# Altium schematic symbol library MU_MP_39_V1.SCHLIB: 148 symbols (part 2 of 2)
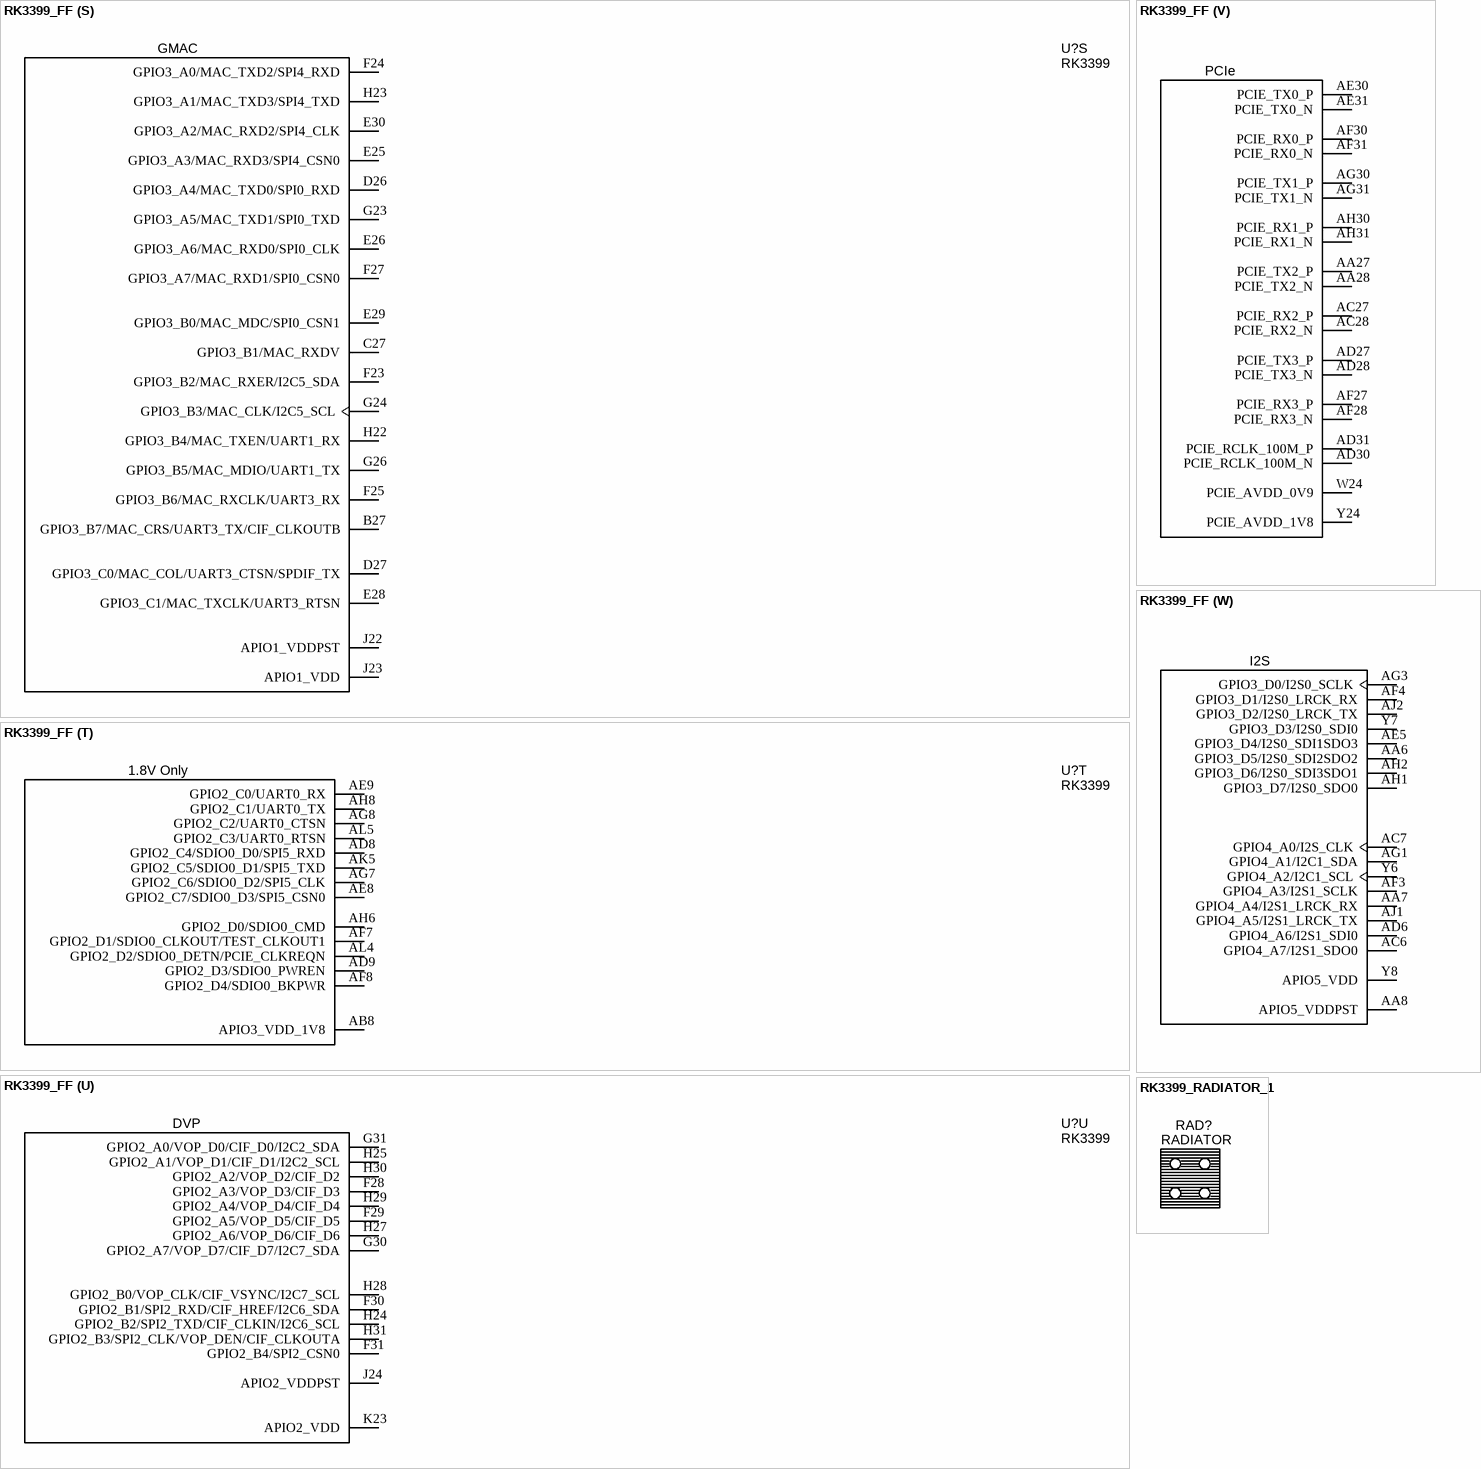
[diagram p14: symbols RK3399_FF to RK3399_RADIATOR_1]

## RK3399_FF
designator U?  value RK3399  (hidden comment: RK3399_FF)
Package: BGA828; ComponentType: *; Manufacter: *; PartNumber: RK3399; ClassName: *
footprint BGA828C65P31X31_2100X2100X161N
part A pins: A1 VSS_1, A27 VSS_2, A31 VSS_3, AA3 VSS_4, AA5 VSS_5, AA9 VSS_6, AA10 VSS_179 (power), AA11 AVSS_13, AA12 AVSS_17, AA13 VSS_177 (power), AA14 AVSS_26, AA15 AVSS_53, AA19 NC, AA20 NC, AA22 NC, AA23 AVSS_4, AA26 AVSS_6, AA29 AVSS_7, AB9 VSS_9, AB10 AVSS_12, AB11 AVSS_8, AB13 AVSS_9, AB15 AVSS_42, AB16 AVSS_41, AB17 AVSS_52, AB19 VSS_140 (power), AB20 NC, AB22 NC, AB23 AVSS_5, AC3 VSS_16, AC11 AVSS_44, AC12 NC, AC13 AVSS_45, AC14 NC, AC15 AVSS_10, AC16 AVSS_18, AC17 AVSS_43, AC18 VSS_145 (power), AC20 VSS_13, AC21 VSS_132 (power), AC22 VSS_12, AC23 AVSS_19, AC25 AVSS_51, AC26 AVSS_14, AC29 AVSS_15, AD3 VSS_17, AD5 VSS_18, AD10 VSS_19, AD11 NC, AD12 NC, AD13 AVSS_11, AD14 NC, AD15 NC, AD17 AVSS_16, AD21 VSS_163 (power), AD22 VSS_11, AD26 AVSS_40, AD29 AVSS_20, AE11 AVSS_21, AE12 AVSS_22, AE14 AVSS_23, AE17 AVSS_24, AE23 VSS_14, AE27 AVSS_25, AF9 VSS_20, AF17 AVSS_27, AF18 VSS_7, AF20 VSS_10, AF23 AVSS_2, AF24 AVSS_3, AF29 AVSS_28, AG2 VSS_21, AG29 AVSS_29, AH29 AVSS_30, AJ5 VSS_22, AJ6 AVSS_31, AJ8 AVSS_32, AJ9 AVSS_33, AJ11 AVSS_34, AJ12 AVSS_35, AJ14 AVSS_36, AJ15 AVSS_37, AJ17 AVSS_38, AJ18 AVSS_39, AJ20 VSS_180 (power), AJ21 VSS_172 (power), AJ23 VSS_173 (power), AJ24 VSS_174 (power), AJ26 VSS_175 (power), AJ27 VSS_176 (power), AJ28 VSS_171 (power), AJ29 AVSS_47, AL1 VSS_23, AL31 VSS_178 (power), B5 VSS_24, C8 VSS_25, C9 VSS_26, C11 VSS_27, C12 VSS_28, C14 VSS_29, C15 VSS_30, C17 VSS_31, C18 VSS_32, C20 VSS_33, C21 VSS_34, C23 VSS_35, C24 VSS_36, C26 VSS_37, D5 VSS_38, E2 VSS_39, E4 VSS_40, E7 VSS_41, E12 VSS_42, E15 VSS_43, E18 VSS_44, E21 VSS_45, E24 VSS_46, E31 VSS_47, F8 VSS_48, F15 VSS_49, F18 VSS_50, F20 VSS_51, F21 VSS_52, G5 VSS_53, G9 VSS_54, G18 VSS_55, G27 VSS_56, H3 VSS_57, H9 VSS_58, H10 VSS_59, H11 VSS_60, H12 VSS_61, H13 VSS_62, H15 VSS_63, H16 VSS_64, H17 VSS_65, H18 VSS_66, H26 VSS_67, J3 VSS_68, J6 VSS_69, J7 VSS_70, J8 VSS_71, J9 VSS_72, J10 VSS_73, K8 VSS_74, K9 VSS_75, K10 VSS_76, K12 VSS_77, K14 VSS_78, K16 VSS_79, K18 VSS_80, K20 VSS_82, K22 VSS_84, L3 VSS_85, L6 VSS_86, L8 VSS_87, L11 VSS_88, L12 VSS_89, L13 VSS_90, L14 VSS_91 (power), L15 VSS_92 (power), L16 VSS_93 (power), L20 VSS_96 (power), L22 VSS_97 (power), L27 VSS_99 (power), M3 VSS_100 (power), M8 VSS_101 (power), M10 VSS_102 (power), M16 VSS_103 (power), M23 VSS_104 (power), N8 VSS_105 (power), N13 VSS_108 (power), N14 VSS_109 (power), N15 VSS_110 (power), N16 VSS_111 (power), N17 VSS_94 (power), N19 VSS_83, N21 VSS_98 (power), P3 VSS_112 (power), P6 VSS_113 (power), P7 VSS_114 (power), P8 VSS_115 (power), P10 VSS_116 (power), P11 VSS_106 (power), P12 VSS_107 (power), P16 VSS_117 (power), P19 VSS_119 (power), P21 VSS_121 (power), R3 VSS_123 (power), R5 VSS_124 (power), R6 VSS_125 (power), R14 VSS_129 (power), R15 VSS_130 (power), R16 VSS_131 (power), R18 VSS_165 (power), R21 VSS_120 (power), R23 VSS_133 (power), T8 VSS_134 (power), T10 VSS_135 (power), T16 VSS_138 (power), T18 VSS_168 (power), T19 VSS_122 (power), T21 VSS_139 (power), U3 VSS_141 (power), U8 VSS_142 (power), U11 VSS_126 (power), U12 VSS_127 (power), U14 VSS_137 (power), U15 VSS_143 (power), U16 VSS_144 (power), U19 VSS_146 (power), U21 VSS_147 (power), U22 VSS_149 (power), U23 AVSS_49, U29 VSS_150 (power), V3 VSS_151 (power), V5 VSS_152 (power), V8 VSS_153 (power), V10 VSS_154 (power), V17 VSS_148 (power), V23 AVSS_50, W8 VSS_161 (power), W9 VSS_162 (power), W13 VSS_128 (power), W17 VSS_159 (power), W18 VSS_169 (power), W19 VSS_167 (power), W21 VSS_81, W22 VSS_158 (power), W23 AVSS_46, W30 VSS_160 (power), Y3 VSS_8, Y9 VSS_166 (power), Y10 VSS_15, Y11 VSS_155 (power), Y12 VSS_136 (power), Y13 VSS_164 (power), Y14 VSS_156 (power), Y15 VSS_157 (power), Y16 VSS_118 (power), Y17 VSS_95 (power), Y20 VSS_170 (power), Y23 AVSS_1
part B pins: K19 BIGCPU_VDD_12, K21 BIGCPU_VDD_13, L17 LOGIC_VDD_10, L18 BIGCPU_VDD_8, L19 BIGCPU_VDD_1, L21 BIGCPU_VDD_2, L23 BIGCPU_VDD_11, M11 CENTERLOGIC_VDD_1, M12 CENTERLOGIC_VDD_2, M13 CENTERLOGIC_VDD_3, M14 CENTERLOGIC_VDD_4, M15 CENTERLOGIC_VDD_5, M17 LOGIC_VDD_9, M18 BIGCPU_VDD_3, M19 BIGCPU_VDD_4, M20 BIGCPU_VDD_5, M21 BIGCPU_VDD_6, M22 BIGCPU_VDD_7, N11 CENTERLOGIC_VDD_6, N12 CENTERLOGIC_VDD_7, N18 BIGCPU_VDD_COM, N20 BIGCPU_VDD_10, N22 BIGCPU_VDD_9, P13 CENTERLOGIC_VDD_8, P14 CENTERLOGIC_VDD_9, P15 CENTERLOGIC_VDD_10, P20 LITCPU_VDD_1, P22 LITCPU_VDD_4, R11 GPU_VDD_8, R12 GPU_VDD_9, R13 GPU_VDD_13, R19 LITCPU_VDD_2, R20 LITCPU_VDD_3, R22 LITCPU_VDD_7, T11 GPU_VDD_10, T12 GPU_VDD_11, T13 GPU_VDD_12, T14 GPU_VDD_14, T15 GPU_VDD_COM, T17 LOGIC_VDD_11, T20 LITCPU_VDD_6, T22 LITCPU_VDD_5, U13 GPU_VDD_7, U17 LOGIC_VDD_8, U18 LOGIC_VDD_7, U20 LOGIC_VDD_12, V11 GPU_VDD_15, V12 GPU_VDD_16, V13 GPU_VDD_6, V14 GPU_VDD_5, V15 GPU_VDD_4, V16 GPU_VDD_17, V18 LOGIC_VDD_5, V19 LOGIC_VDD_4, V20 LOGIC_VDD_3, V21 LOGIC_VDD_2, V22 LOGIC_VDD_1, W10 GPU_VDD_20, W11 GPU_VDD_1, W12 GPU_VDD_2, W14 GPU_VDD_3, W15 GPU_VDD_19, W16 GPU_VDD_18, W20 LOGIC_VDD_6
part C pins: AA25 GPIO0_A4/SDIO0_INTN, AD23 EFUSE, N24 GPIO0_A2/WIFI_26MHZ, P17 PLL_AVSS, P18 PLL_AVDD_1V8, P24 GPIO0_B5/TCPD_VBUS_FDIS/TCPD_VBUS_SOURCE3, P25 GPIO0_A6/PWM3A_IR, R17 PLL_AVDD_0V9, R24 PMUIO1_VDD_1V8, R29 GPIO0_A1/DDRIO_PWROFF/TCPD_CCDB_EN, T24 PMU_VDD_0V9, T30 NPOR, U25 PMU_VDD_1V8, U28 GPIO0_B0/SDMMC0_WRPT/TEST_CLKOUT2, U30 GPIO0_B3, U31 GPIO0_A0/TEST_CLKOUT0/CLK32K_IN, V26 GPIO0_B4/TCPD_VBUS_BDIS, V27 GPIO0_A5/EMMC_PWRON, V28 GPIO0_A7/SDMMC0_DET, V30 GPIO0_B1/PMUIO2_VOLSEL, V31 GPIO0_A3/SDIO0_WRPT, W31 GPIO0_B2, Y29 AVSS_48, Y30 XOUT_OSC, Y31 XIN_OSC
part D pins: AA1 DDR0_DQ3, AA2 DDR0_DQ2, AA4 DDR0_DQS0N, AB1 DDR0_DQ1, AB2 DDR0_DQ0, AC1 DDR0_DQ14, AC2 DDR0_DQ15, AC4 DDR0_DQS1P, AC5 DDR0_DM1, AD1 DDR0_DQ13, AD2 DDR0_DQ11, AD4 DDR0_DQS1N, AE1 DDR0_DQ12, AE2 DDR0_DQ9, AF1 DDR0_DQ10, AF2 DDR0_DQ8, B1 DDR0_CSN1, C1 DDR0_A12, C2 DDR0_CSN3, C3 DDR0_BA0, D1 DDR0_A10, D2 DDR0_A13, D3 DDR0_A14, E1 DDR0_CKE0, E3 DDR0_A11, F1 DDR0_A1, F2 DDR0_A0, F3 DDR0_RASN, F4 DDR0_BA1, F5 DDR0_CKE1, G1 DDR0_A2, G2 DDR0_A3, G6 DDR0_WEN, H1 DDR0_A5, H2 DDR0_A4, H4 DDR0_CLK0P, H5 DDR0_CLK1P, H6 DDR0_CASN, H7 DDR0_A15, J1 DDR0_A6, J2 DDR0_A7, J4 DDR0_CLK0N, J5 DDR0_CLK1N, K1 DDR0_A9, K2 DDR0_A8, L1 DDR0_DQ29, L2 DDR0_DQ31, L4 DDR0_ODT0, L5 DDR0_ODT1, L7 DDR0_RESETN, L9 DDR0_VDD_1, L10 DDR0_VDD_2, M1 DDR0_DQ27, M2 DDR0_DQ30, M4 DDR0_BA2, M5 DDR0_CSN2, M6 DDR0_CSN0, M7 DDR0_CLK_VDD, M9 DDR0_VDD_3, N1 DDR0_DQ26, N2 DDR0_DQ28, N9 DDR0_VDD_4, N10 DDR0_VDD_5, P1 DDR0_DQ24, P2 DDR0_DQ25, P4 DDR0_DQS3P, P5 DDR0_DM3, P9 DDR0_VDD_6, R1 DDR0_DQ23, R2 DDR0_DQ22, R4 DDR0_DQS3N, R7 DDR0_PZQ, R8 DDR0PLL_AVDD_0V9, R9 DDR0_VDD_7, R10 DDR0_VDD_8, T1 DDR0_DQ20, T2 DDR0_DQ21, T9 DDR0_VDD_9, U1 DDR0_DQ18, U2 DDR0_DQ19, U4 DDR0_DQS2P, U5 DDR0_DM2, U6 DDR0_ATB0, U7 DDR0_ATB1, U9 DDR0_VDD_10, U10 DDR0_VDD_11, V1 DDR0_DQ16, V2 DDR0_DQ17, V4 DDR0_DQS2N, V6 DDR0_PLL_TESTOUT_P, V7 DDR0_PLL_TESTOUT_N, V9 DDR0_VDD_12, W1 DDR0_DQ6, W2 DDR0_DQ7, Y1 DDR0_DQ5, Y2 DDR0_DQ4, Y4 DDR0_DQS0P, Y5 DDR0_DM0
part E pins: A2 DDR1_CSN1, A3 DDR1_A12, A4 DDR1_A10, A5 DDR1_CKE0, A6 DDR1_A9, A7 DDR1_A7, A8 DDR1_A5, A9 DDR1_A3, A10 DDR1_A1, A11 DDR1_DQ10, A12 DDR1_DQ12, A13 DDR1_DQ13, A14 DDR1_DQ14, A15 DDR1_DQ1, A16 DDR1_DQ3, A17 DDR1_DQ5, A18 DDR1_DQ6, A19 DDR1_DQ16, A20 DDR1_DQ18, A21 DDR1_DQ20, A22 DDR1_DQ23, A23 DDR1_DQ24, A24 DDR1_DQ26, A25 DDR1_DQ27, A26 DDR1_DQ29, B2 DDR1_BA0, B3 DDR1_CSN3, B4 DDR1_A13, B6 DDR1_A8, B7 DDR1_A6, B8 DDR1_A4, B9 DDR1_A2, B10 DDR1_A0, B11 DDR1_DQ8, B12 DDR1_DQ9, B13 DDR1_DQ11, B14 DDR1_DQ15, B15 DDR1_DQ0, B16 DDR1_DQ2, B17 DDR1_DQ4, B18 DDR1_DQ7, B19 DDR1_DQ17, B20 DDR1_DQ19, B21 DDR1_DQ21, B22 DDR1_DQ22, B23 DDR1_DQ25, B24 DDR1_DQ28, B25 DDR1_DQ30, B26 DDR1_DQ31, C4 DDR1_A14, C5 DDR1_A11, C6 DDR1_RASN, D6 DDR1_BA1, D8 DDR1_CLK0N, D9 DDR1_CLK0P, D11 DDR1_ODT0, D12 DDR1_BA2, D14 DDR1_DQS1N, D15 DDR1_DQS1P, D17 DDR1_DQS0N, D18 DDR1_DQS0P, D20 DDR1_DQS2N, D21 DDR1_DQS2P, D23 DDR1_DQS3N, D24 DDR1_DQS3P, E6 DDR1_CKE1, E8 DDR1_CLK1N, E9 DDR1_CLK1P, E11 DDR1_ODT1, E14 DDR1_DM1, E17 DDR1_DM0, E20 DDR1_DM2, E23 DDR1_DM3, F7 DDR1_WEN, F9 DDR1_CASN, F11 DDR1_CSN2, F12 DDR1_CSN0, F14 DDR1_PLL_TESTOUT_P, F17 DDR1_ATB0, G8 DDR1_A15, G11 DDR1_RESETN, G12 DDR1_CLK_VDD, G14 DDR1_PLL_TESTOUT_N, G15 DDR1_PZQ, G17 DDR1_ATB1, H14 DDR1PLL_AVDD_0V9, J11 DDR1_VDD_1, J12 DDR1_VDD_2, J13 DDR1_VDD_3, J14 DDR1_VDD_4, J15 DDR1_VDD_5, J16 DDR1_VDD_6, J17 DDR1_VDD_7, J18 DDR1_VDD_8, K11 DDR1_VDD_9, K13 DDR1_VDD_10, K15 DDR1_VDD_11, K17 DDR1_VDD_12
part F pins: AD24 USIC_AVDD_1V2, AD25 USIC_AVDD_0V9, AJ30 USIC_STROBE, AJ31 USIC_DATA
part G pins: T23 SDMMC0_VDD, U26 SDMMC0_VDDPST, U27 GPIO4_B3/SDMMC0_D3/APJTAG_TMS, V25 GPIO4_B5/SDMMC0_CMD/MCUJTAG_TMS, V29 GPIO4_B4/SDMMC0_CLKOUT/MUCJTAG_TCK, Y26 GPIO4_B1/SDMMC0_D1/UART2A_TX, Y27 GPIO4_B0/SDMMC0_D0/UART2A_RX, Y28 GPIO4_B2/SDMMC0_D2/APJTAG_TCK
part H pins: AC8 APIO4_VDDPST, AC9 APIO4_VDD, AD7 GPIO4_C7/HDMI_CECINOUT/EDP_HOTPLUG, AE6 GPIO4_D0/PCIE_CLKREQNB, AF5 GPIO4_C2/PWM0/VOP0_PWM/VOP1_PWM, AG4 GPIO4_D6, AG6 GPIO4_C0/I2C3_SDA/UART2B_RX, AH3 GPIO4_D2, AH5 GPIO4_D4, AJ3 GPIO4_D5, AJ4 GPIO4_C4/UART2C_TX, AK1 GPIO4_C5/SPDIF_TX, AK2 GPIO4_C3/UART2C_RX, AK3 GPIO4_D3, AK4 GPIO4_D1/DP_HOTPLUG, AL2 GPIO4_C1/I2C3_SCL/UART2B_TX, AL3 GPIO4_C6/PWM1
part I pins: J25 EMMC_D3, J26 EMMC_D4, J27 EMMC_D5, J28 EMMC_D0, J29 EMMC_D1, J30 EMMC_D2, J31 EMMC_CMD, K24 EMMC_VDD_1V8, K30 EMMC_D7, K31 EMMC_STRB, L24 EMMC_COREDLL_0V9, L28 EMMC_CLK, L29 EMMC_CALIO, L30 EMMC_TP, L31 EMMC_D6
part J pins: AA30 USB1_DP, AA31 USB1_DN, AB30 USB0_DP, AB31 USB0_DN, AC30 USB1_RBIAS, AC31 USB0_RBIAS, U24 USB_AVDD_1V8, V24 USB_AVDD_0V9, Y25 USB_AVDD_3V3
part K pins: AA18 TYPEC0_AVDD_1V8, AA21 TYPEC1_AVDD_1V8, AB18 TYPEC0_AVDD_3V3, AB21 TYPEC1_AVDD_3V3, AC19 TYPEC1_U3VBUSDET, AD18 TYPEC0_RCLKM, AD19 TYPEC0_U3VBUSDET, AD20 TYPEC1_RCLKM, AE18 TYPEC0_RCLKP, AE20 TYPEC1_RCLKP, AE21 TYPEC1_REXT, AE24 TYPEC1_AUXP_PD_PU, AE26 TYPEC1_ID, AF21 TYPEC1_CC2, AF25 TYPEC1_AUXM_PU_PD, AG17 TYPEC0_AUXM_PU_PD, AG18 TYPEC0_REXT, AG20 TYPEC0_REXT_CC, AG21 TYPEC1_REXT_CC, AG23 TYPEC0_DP, AG24 TYPEC1_DP, AH17 TYPEC0_AUXP_PD_PU, AH18 TYPEC0_CC1, AH20 TYPEC0_CC2, AH21 TYPEC1_CC1, AH23 TYPEC0_DN, AH24 TYPEC1_DN, AK20 TYPEC0_AUXP, AK21 TYPEC0_RX1P, AK22 TYPEC0_TX1M, AK23 TYPEC0_RX2P, AK24 TYPEC0_TX2M, AK25 TYPEC1_RX1P, AK26 TYPEC1_TX1M, AK27 TYPEC1_RX2P, AK28 TYPEC1_TX2M, AK29 TYPEC1_AUXP, AK30 TYPEC0_U2VBUSDET, AK31 TYPEC1_U2VBUSDET, AL20 TYPEC0_AUXM, AL21 TYPEC0_RX1M, AL22 TYPEC0_TX1P, AL23 TYPEC0_RX2M, AL24 TYPEC0_TX2P, AL25 TYPEC1_RX1M, AL26 TYPEC1_TX1P, AL27 TYPEC1_RX2M, AL28 TYPEC1_TX2P, AL29 TYPEC1_AUXM, AL30 TYPEC0_ID, Y18 TYPEC0_AVDD_0V9_2, Y19 TYPEC0_AVDD_0V9_1, Y21 TYPEC1_AVDD_0V9_1, Y22 TYPEC1_AVDD_0V9_2
part L pins: A28 EDP_AUXN, A29 EDP_TX0N, A30 EDP_TX1N, B28 EDP_AUXP, B29 EDP_TX0P, B30 EDP_TX1P, B31 EDP_AVSS_1, C28 EDP_AVSS_2, C29 EDP_AVSS_3, C30 EDP_TX2P, C31 EDP_TX2N, D29 EDP_AVSS_4, D30 EDP_TX3P, D31 EDP_TX3N, G20 EDP_DC_TP, G21 EDP_REXT, H19 EDP_AVSS_5, H20 EDP_AVDD_0V9, H21 EDP_CLK24M_IN, J19 EDP_AVDD_1V8_1, J20 EDP_AVDD_1V8_2, J21 EDP_AVSS_6
part M pins: AA16 HDMI_AVDD_0V9_1, AA17 HDMI_AVDD_0V9_2, AD16 HDMI_AVDD_1V8, AE15 HDMI_HPD, AF15 HDMI_REXT, AK16 HDMI_TCP, AK17 HDMI_TX0P, AK18 HDMI_TX1P, AK19 HDMI_TX2P, AL16 HDMI_TCN, AL17 HDMI_TX0N, AL18 HDMI_TX1N, AL19 HDMI_TX2N
part N pins: AB12 MIPI_TX0_AVDD_1V8, AF12 MIPI_TX0_REXT, AG9 MIPI_TX0_D3P, AG11 MIPI_TX0_D2P, AG12 MIPI_TX0_CLKP, AG14 MIPI_TX0_D1P, AG15 MIPI_TX0_D0P, AH9 MIPI_TX0_D3N, AH11 MIPI_TX0_D2N, AH12 MIPI_TX0_CLKN, AH14 MIPI_TX0_D1N, AH15 MIPI_TX0_D0N
part O pins: AB14 MIPI_RX0_AVDD_1V8, AF14 MIPI_RX0_REXT, AK11 MIPI_RX0_D3P, AK12 MIPI_RX0_D2P, AK13 MIPI_RX0_CLKP, AK14 MIPI_RX0_D1P, AK15 MIPI_RX0_D0P, AL11 MIPI_RX0_D3N, AL12 MIPI_RX0_D2N, AL13 MIPI_RX0_CLKN, AL14 MIPI_RX0_D1N, AL15 MIPI_RX0_D0N
part P pins: AC10 MIPI_TX1/RX1_AVDD_1V8, AF11 MIPI_TX1/RX1_REXT, AK6 MIPI_TX1/RX1_D0P, AK7 MIPI_TX1/RX1_D1P, AK8 MIPI_TX1/RX1_CLKP, AK9 MIPI_TX1/RX1_D2P, AK10 MIPI_TX1/RX1_D3P, AL6 MIPI_TX1/RX1_D0N, AL7 MIPI_TX1/RX1_D1N, AL8 MIPI_TX1/RX1_CLKN, AL9 MIPI_TX1/RX1_D2N, AL10 MIPI_TX1/RX1_D3N
part Q pins: AA24 DFTJTAG_TMS, AB24 DFTJTAG_TRSTN, L25 GPIO1_C6/TCPD_VBUS_SOURCE0, L26 GPIO1_D0/TCPD_VBUS_SOURCE2, M24 GPIO1_B5, M25 GPIO1_B6/PWM3B_IR, M26 GPIO1_B7/SPI3_RXD/I2C0_SDA, M27 GPIO1_C1/SPI3_CLK, M28 GPIO1_C3/PWM2, M29 GPIO1_C4/I2C8_SDA, M30 GPIO1_C5/I2C8_SCL, M31 GPIO1_C7/TCPD_VBUS_SOURCE1, N23 PMUIO2_VDDPST, N30 GPIO1_C0/SPI3_TXD/I2C0_SCL, N31 GPIO1_C2/SPI3_CSN0, P23 PMUIO2_VDD, P26 GPIO1_A6/TSADC_INT, P27 GPIO1_A7/SPI1_RXD/UART4_RX, P28 GPIO1_B1/SPI1_CLK/PMCU_JTAG_TCK, P29 GPIO1_B2/SPI1_CSN0/PMCU_JTAG_TMS, P30 GPIO1_B4/I2C4_SCL, P31 GPIO1_B3/I2C4_SDA, R25 GPIO1_A0/ISP0_SHUTTER_EN/ISP1_SHUTTER_EN/TCPD_VBUS_SINK_EN, R26 GPIO1_A2/ISP0_FLASHTRIGIN/ISP1_FLASHTRIGIN/TCPD_CC1_VCONN_EN, R27 GPIO1_A3/ISP0_FLASHTRIGOUT/ISP1_FLASHTRIGOUT, R28 GPIO1_A4/ISP0_PRELIGHT_TRIG/ISP1_PRELIGHT_TRIG, R30 GPIO1_A5/AP_PWROFF, R31 GPIO1_B0/SPI1_TXD/UART4_TX, T31 GPIO1_A1/ISP0_SHUTTER_TRIG/ISP1_SHUTTER_TRIG/TCPD_CC0_VCONN_EN
part R pins: AC24 ADC_AVDD, AG25 ADC_IN2, AG26 ADC_IN0, AG28 ADC_IN3, AH26 ADC_IN1, AH27 ADC_IN4
part S pins: B27 GPIO3_B7/MAC_CRS/UART3_TX/CIF_CLKOUTB, C27 GPIO3_B1/MAC_RXDV, D26 GPIO3_A4/MAC_TXD0/SPI0_RXD, D27 GPIO3_C0/MAC_COL/UART3_CTSN/SPDIF_TX, E25 GPIO3_A3/MAC_RXD3/SPI4_CSN0, E26 GPIO3_A6/MAC_RXD0/SPI0_CLK, E28 GPIO3_C1/MAC_TXCLK/UART3_RTSN, E29 GPIO3_B0/MAC_MDC/SPI0_CSN1, E30 GPIO3_A2/MAC_RXD2/SPI4_CLK, F23 GPIO3_B2/MAC_RXER/I2C5_SDA, F24 GPIO3_A0/MAC_TXD2/SPI4_RXD, F25 GPIO3_B6/MAC_RXCLK/UART3_RX, F27 GPIO3_A7/MAC_RXD1/SPI0_CSN0, G23 GPIO3_A5/MAC_TXD1/SPI0_TXD, G24 GPIO3_B3/MAC_CLK/I2C5_SCL, G26 GPIO3_B5/MAC_MDIO/UART1_TX, H22 GPIO3_B4/MAC_TXEN/UART1_RX, H23 GPIO3_A1/MAC_TXD3/SPI4_TXD, J22 APIO1_VDDPST, J23 APIO1_VDD
part T pins: AB8 APIO3_VDD_1V8, AD8 GPIO2_C4/SDIO0_D0/SPI5_RXD, AD9 GPIO2_D3/SDIO0_PWREN, AE8 GPIO2_C7/SDIO0_D3/SPI5_CSN0, AE9 GPIO2_C0/UART0_RX, AF7 GPIO2_D1/SDIO0_CLKOUT/TEST_CLKOUT1, AF8 GPIO2_D4/SDIO0_BKPWR, AG7 GPIO2_C6/SDIO0_D2/SPI5_CLK, AG8 GPIO2_C2/UART0_CTSN, AH6 GPIO2_D0/SDIO0_CMD, AH8 GPIO2_C1/UART0_TX, AK5 GPIO2_C5/SDIO0_D1/SPI5_TXD, AL4 GPIO2_D2/SDIO0_DETN/PCIE_CLKREQN, AL5 GPIO2_C3/UART0_RTSN
part U pins: F28 GPIO2_A3/VOP_D3/CIF_D3, F29 GPIO2_A5/VOP_D5/CIF_D5, F30 GPIO2_B1/SPI2_RXD/CIF_HREF/I2C6_SDA, F31 GPIO2_B4/SPI2_CSN0, G30 GPIO2_A7/VOP_D7/CIF_D7/I2C7_SDA, G31 GPIO2_A0/VOP_D0/CIF_D0/I2C2_SDA, H24 GPIO2_B2/SPI2_TXD/CIF_CLKIN/I2C6_SCL, H25 GPIO2_A1/VOP_D1/CIF_D1/I2C2_SCL, H27 GPIO2_A6/VOP_D6/CIF_D6, H28 GPIO2_B0/VOP_CLK/CIF_VSYNC/I2C7_SCL, H29 GPIO2_A4/VOP_D4/CIF_D4, H30 GPIO2_A2/VOP_D2/CIF_D2, H31 GPIO2_B3/SPI2_CLK/VOP_DEN/CIF_CLKOUTA, J24 APIO2_VDDPST, K23 APIO2_VDD
part V pins: AA27 PCIE_TX2_P, AA28 PCIE_TX2_N, AC27 PCIE_RX2_P, AC28 PCIE_RX2_N, AD27 PCIE_TX3_P, AD28 PCIE_TX3_N, AD30 PCIE_RCLK_100M_N, AD31 PCIE_RCLK_100M_P, AE30 PCIE_TX0_P, AE31 PCIE_TX0_N, AF27 PCIE_RX3_P, AF28 PCIE_RX3_N, AF30 PCIE_RX0_P, AF31 PCIE_RX0_N, AG30 PCIE_TX1_P, AG31 PCIE_TX1_N, AH30 PCIE_RX1_P, AH31 PCIE_RX1_N, W24 PCIE_AVDD_0V9, Y24 PCIE_AVDD_1V8
part W pins: AA6 GPIO3_D5/I2S0_SDI2SDO2, AA7 GPIO4_A4/I2S1_LRCK_RX, AA8 APIO5_VDDPST, AC6 GPIO4_A7/I2S1_SDO0, AC7 GPIO4_A0/I2S_CLK, AD6 GPIO4_A6/I2S1_SDI0, AE5 GPIO3_D4/I2S0_SDI1SDO3, AF3 GPIO4_A3/I2S1_SCLK, AF4 GPIO3_D1/I2S0_LRCK_RX, AG1 GPIO4_A1/I2C1_SDA, AG3 GPIO3_D0/I2S0_SCLK, AH1 GPIO3_D7/I2S0_SDO0, AH2 GPIO3_D6/I2S0_SDI3SDO1, AJ1 GPIO4_A5/I2S1_LRCK_TX, AJ2 GPIO3_D2/I2S0_LRCK_TX, Y6 GPIO4_A2/I2C1_SCL, Y7 GPIO3_D3/I2S0_SDI0, Y8 APIO5_VDD
part C text: 1.8V Only
part D text: DDRC0
part E text: DDRC1
part F text: USIC Controler
part G text: SDMMC
part I text: eMMC
part J text: USB 2.0
part K text: USB 3.0
part L text: eDP
part M text: HDMI
part N text: MIPI DSI
part O text: MIPI CSI
part P text: MIPI CSI/DSI
part R text: SAR-ADC
part S text: GMAC
part T text: 1.8V Only
part U text: DVP
part V text: PCIe
part W text: I2S

## RK3399_RADIATOR_1
designator RAD?, comment RADIATOR
ComponentType: SMD Chip Resistor; Manufacter: *; Voltage: *; ClassName: *; Tolerance: *; PartNumber: *; Package: RADIATOR _6x5.2mm; Value: RADIATOR
footprint RK3399_RADIATOR_1
footprint RK3399_RADIATOR_2
footprint RK3399_RADIATOR_3
pins: 1, 2, 3, 4

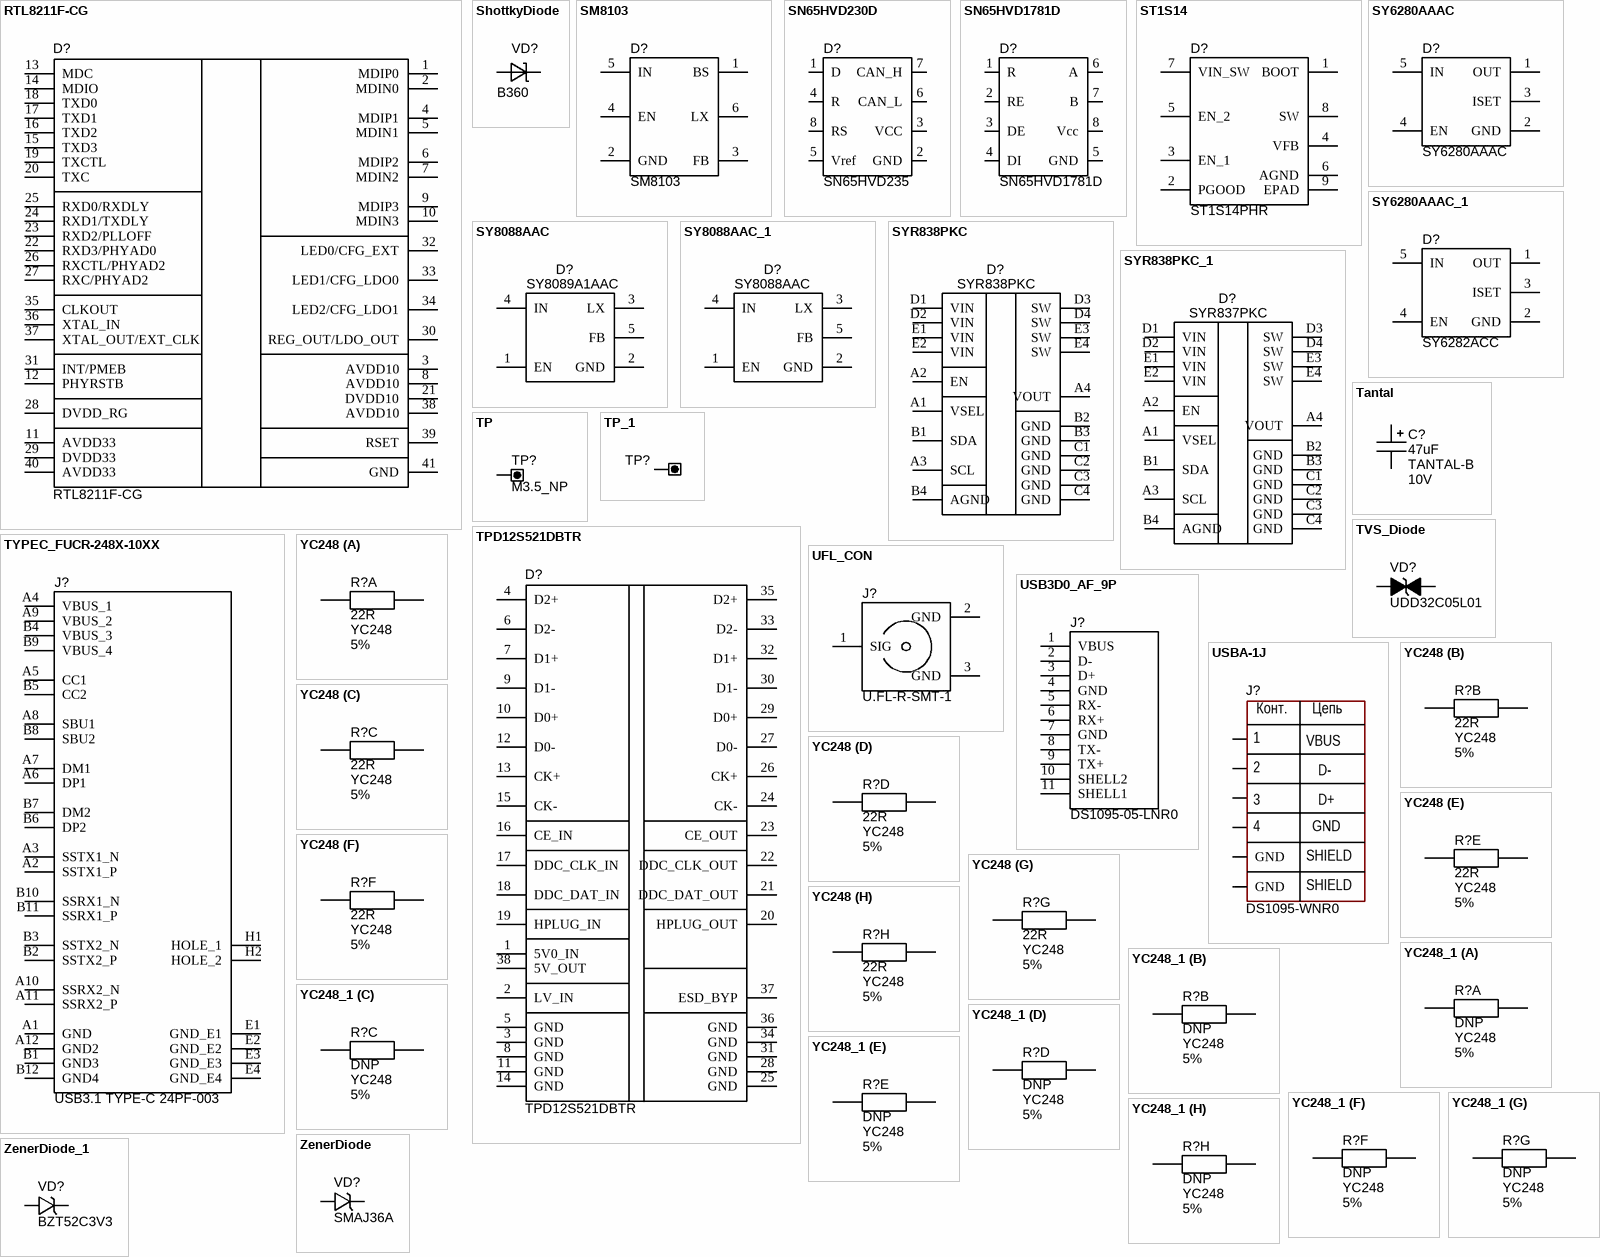
[diagram p13: symbols RTL8211F-CG to ZenerDiode_1]

## RTL8211F-CG
designator D?
ComponentType: SMD Chip Resistor; Manufacter: *; Voltage: *; ClassName: *; Tolerance: *; PartNumber: RTL8211F-CG; Package: QFN40; Value: RTL8211F-CG
footprint QFN40
pins: 1 MDIP0, 2 MDIN0, 3 AVDD10, 4 MDIP1, 5 MDIN1, 6 MDIP2, 7 MDIN2, 8 AVDD10, 9 MDIP3, 10 MDIN3, 11 AVDD33, 12 PHYRSTB, 13 MDC, 14 MDIO, 15 TXD3, 16 TXD2, 17 TXD1, 18 TXD0, 19 TXCTL, 20 TXC, 21 DVDD10, 22 RXD3/PHYAD0, 23 RXD2/PLLOFF, 24 RXD1/TXDLY, 25 RXD0/RXDLY, 26 RXCTL/PHYAD2, 27 RXC/PHYAD2, 28 DVDD_RG, 29 DVDD33, 30 REG_OUT/LDO_OUT, 31 INT/PMEB, 32 LED0/CFG_EXT, 33 LED1/CFG_LDO0, 34 LED2/CFG_LDO1, 35 CLKOUT, 36 XTAL_IN, 37 XTAL_OUT/EXT_CLK, 38 AVDD10, 39 RSET, 40 AVDD33, 41 GND

## ShottkyDiode
designator VD?, comment value B360  (hidden comment: Value)
ComponentType: *; Manufacter: *; Package: SMA; PartNumber: B360; ClassName: *
footprint SOD323
footprint SMC
footprint SMA
pins: 1 A, 2 C

## SM8103
designator D?
Manufacter: ST; ComponentType: step-down switching regulator; Package: TSOT23-6; PartNumber: SM8103; ClassName: *; Value: SM8103
footprint SOT23-6 (pitch 0.95 mm)
pins: 1 BS, 2 GND, 3 FB, 4 EN, 5 IN, 6 LX

## SN65HVD230D
designator D?, comment SN65HVD235
Manufacter: TI; PartNumber: SN65HVD235D; ComponentType: CAN Bus Transceiver; Package: SO8; Value: SN65HVD235
footprint SO8 (pitch 1.27 mm)
pins: 1 D, 2 GND, 3 VCC, 4 R, 5 Vref, 6 CAN_L, 7 CAN_H, 8 RS

## SN65HVD1781D
designator D?
Manufacter: TI; ComponentType: RS-485 Transceiver; Package: SO8; PartNumber: SN65HVD1781D; Value: SN65HVD1781D
footprint SO8 (pitch 1.27 mm)
pins: 1 R, 2 RE, 3 DE, 4 DI, 5 GND, 6 A, 7 B, 8 Vcc

## ST1S14
designator D?, comment ST1S14PHR
Manufacter: ST; ComponentType: step-down switching regulator; Package: Power SO8; PartNumber: ST1S14PHR; ClassName: *; Value: ST1S14PHR
footprint SO8_PWR (pitch 1.27 mm, power pad)
pins: 1 BOOT, 2 PGOOD, 3 EN_1, 4 VFB, 5 EN_2, 6 AGND, 7 VIN_SW, 8 SW, 9 EPAD

## SY6280AAAC
designator D?
ComponentType: SMD Chip Resistor; Manufacter: *; Voltage: *; ClassName: *; Tolerance: *; PartNumber: SY6280AAAC; Package: SOT23-5; Value: SY6280AAAC
footprint SOT23-5 (pitch 0.95 mm)
pins: 1 OUT, 2 GND, 3 ISET, 4 EN, 5 IN

## SY6280AAAC_1
designator D?, comment SY6282ACC
ComponentType: SMD Chip Resistor; Manufacter: *; Voltage: *; ClassName: *; Tolerance: *; PartNumber: SY6282ACC; Package: SOT23-5; Value: SY6282ACC
footprint SOT23-5 (pitch 0.95 mm)
pins: 1 OUT, 2 GND, 3 ISET, 4 EN, 5 IN

## SY8088AAC
designator D?, comment SY8089A1AAC
ComponentType: SMD Chip Resistor; Manufacter: *; Voltage: *; ClassName: *; Tolerance: *; PartNumber: SY8089A1AAC; Package: SOT23-5; Value: SY8089A1AAC
footprint SOT23-5 (pitch 0.95 mm)
pins: 1 EN, 2 GND, 3 LX, 4 IN, 5 FB

## SY8088AAC_1
designator D?, comment SY8088AAC
ComponentType: SMD Chip Resistor; Manufacter: *; Voltage: *; ClassName: *; Tolerance: *; PartNumber: SY8088AAC; Package: SOT23-5; Value: SY8088AAC
footprint SOT23-5 (pitch 0.95 mm)
pins: 1 EN, 2 GND, 3 LX, 4 IN, 5 FB

## SYR838PKC
designator D?
ComponentType: SMD Chip Resistor; Manufacter: *; Voltage: *; ClassName: *; Tolerance: *; PartNumber: SYR838PKC; Package: WLCSP-20; Value: SYR838PKC
footprint WLCSP-20
pins: A1 VSEL, A2 EN, A3 SCL, A4 VOUT, B1 SDA, B2 GND, B3 GND, B4 AGND, C1 GND, C2 GND, C3 GND, C4 GND, D1 VIN, D2 VIN, D3 SW, D4 SW, E1 VIN, E2 VIN, E3 SW, E4 SW

## SYR838PKC_1
designator D?, comment SYR837PKC
ComponentType: SMD Chip Resistor; Manufacter: *; Voltage: *; ClassName: *; Tolerance: *; PartNumber: SYR837PKC; Package: WLCSP-20; Value: SYR837PKC
footprint WLCSP-20
pins: A1 VSEL, A2 EN, A3 SCL, A4 VOUT, B1 SDA, B2 GND, B3 GND, B4 AGND, C1 GND, C2 GND, C3 GND, C4 GND, D1 VIN, D2 VIN, D3 SW, D4 SW, E1 VIN, E2 VIN, E3 SW, E4 SW

## Tantal
designator C?, comment Package: TANTAL-B  Voltage: 10V  (hidden comment: 47uF)
PartNumber: CA45L-B010K476TE500; Tolerance: 20%; Manufacturer: *; ComponentType: SMD Tantalum Chip Capacitor; ClassName: *; Value: 47uF
footprint TANTAL-A
footprint TANTAL-B
pins: 1 (power), 2 (power)

## TP
designator TP?, comment M3.5_NP
ComponentType: *; Manufacter: *; Package: *; PartNumber: *; ClassName: *; Value: M3.5_NP
footprint M3.5_NP
pins: 1

## TP_1
designator TP?, comment TEST POINT SMD 1MM  (value not drawn)
ComponentType: *; Manufacter: *; Package: TEST POINT SMD 1MM; PartNumber: TEST POINT SMD 1MM; ClassName: *; Value: TEST POINT SMD 1MM
footprint TEST POINT SMD 1.5MM
footprint TEST POINT SMD 1MM
pins: 1

## TPD12S521DBTR
designator D?
ComponentType: *; Manufacter: *; Package: TSSOP-38; PartNumber: TPD12S521DBTR; ClassName: *; Value: TPD12S521DBTR
footprint TSSOP-38
pins: 1 5V0_IN, 2 LV_IN, 3 GND, 4 D2+, 5 GND, 6 D2-, 7 D1+, 8 GND, 9 D1-, 10 D0+, 11 GND, 12 D0-, 13 CK+, 14 GND, 15 CK-, 16 CE_IN, 17 DDC_CLK_IN, 18 DDC_DAT_IN, 19 HPLUG_IN, 20 HPLUG_OUT, 21 DDC_DAT_OUT, 22 DDC_CLK_OUT, 23 CE_OUT, 24 CK-, 25 GND, 26 CK+, 27 D0-, 28 GND, 29 D0+, 30 D1-, 31 GND, 32 D1+, 33 D2-, 34 GND, 35 D2+, 36 GND, 37 ESD_BYP, 38 5V_OUT

## TVS_Diode
designator VD?  value UDD32C05L01  (hidden comment: TVS_Diode)
ComponentType: *; Manufacter: *; Package: SOD323; PartNumber: UDD32C05L01; ClassName: *
footprint SOD323
pins: 1 A, 2 C

## TYPEC_FUCR-248X-10XX
designator J?, comment USB3.1 TYPE-C 24PF-003
ComponentType: SMD Chip Resistor; Manufacter: *; Voltage: *; ClassName: *; Tolerance: *; PartNumber: USB3.1 TYPE-C 24PF-003; Package: USB3.1 TYPE-C 24PF-003; Value: USB3.1 TYPE-C 24PF-003
footprint USB3.1 TYPE-C 24PF-003
pins: A1 GND, A2 SSTX1_P, A3 SSTX1_N, A4 VBUS_1, A5 CC1, A6 DP1, A7 DM1, A8 SBU1, A9 VBUS_2, A10 SSRX2_N, A11 SSRX2_P, A12 GND2, B1 GND3, B2 SSTX2_P, B3 SSTX2_N, B4 VBUS_3, B5 CC2, B6 DP2, B7 DM2, B8 SBU2, B9 VBUS_4, B10 SSRX1_N, B11 SSRX1_P, B12 GND4, E1 GND_E1, E2 GND_E2, E3 GND_E3, E4 GND_E4, H1 HOLE_1, H2 HOLE_2

## UFL_CON
designator J?, comment U.FL-R-SMT-1
ComponentType: SMD Chip Resistor; Manufacter: *; Voltage: *; ClassName: *; Tolerance: *; PartNumber: U.FL-R-SMT-1; Package: U.FL-R-SMT-1; Value: U.FL-R-SMT-1
footprint U.FL-R-SMT-1
pins: 1 SIG, 2 GND, 3 GND

## USB3D0_AF_9P
designator J?, comment DS1095-05-LNR0
ComponentType: SMD Chip Resistor; Manufacter: *; Voltage: *; ClassName: *; Tolerance: *; PartNumber: DS1095-05-LNR0; Package: DS1095-05-LNR0; Value: DS1095-05-LNR0
footprint DS1095-05-LNR0
pins: 1 VBUS, 2 D-, 3 D+, 4 GND, 5 RX-, 6 RX+, 7 GND, 8 TX-, 9 TX+, 10 SHELL2, 11 SHELL1

## USBA-1J
designator J?, comment DS1095-WNR0
ComponentType: *; Manufacter: *; Package: DS1095-WNR0; PartNumber: DS1095-WNR0; Value: DS1095-WNR0
footprint USB-A-J1
footprint DS1095-WNR0
pins: 1, 2, 3, 4, S1 GND, S2 GND
text: Конт.; Цепь; VBUS; D-; D+; SHIELD

## YC248
designator R?, comment Package: YC248  Tolerance: 5%  (hidden comment: 22R)
PartNumber: YC248-JR-0722RL; ComponentType: *; Manufacter: *; ClassName: *; Value: 22R
footprint YC248
part A pins: 1, 16
part B pins: 2, 15
part C pins: 3, 14
part D pins: 4, 13
part E pins: 5, 12
part F pins: 6, 11
part G pins: 7, 10
part H pins: 8, 9

## YC248_1
designator R?, comment Package: YC248  Tolerance: 5%  (hidden comment: DNP)
PartNumber: Do Not Place; ComponentType: *; Manufacter: *; ClassName: *; Value: DNP
footprint YC248
part A pins: 1, 16
part B pins: 2, 15
part C pins: 3, 14
part D pins: 4, 13
part E pins: 5, 12
part F pins: 6, 11
part G pins: 7, 10
part H pins: 8, 9

## ZenerDiode
designator VD?, comment SMAJ36A
ComponentType: *; Manufacter: *; Package: SMA; PartNumber: SMAJ36A; ClassName: *; Value: SMAJ36A
footprint SOD323
footprint SMC
footprint SMA
pins: 1 A, 2 C

## ZenerDiode_1
designator VD?, comment BZT52C3V3
ComponentType: *; Manufacter: *; Package: SOD323; PartNumber: BZT52C3V3; ClassName: *; Value: BZT52C3V3
footprint SOD323
footprint SMC
pins: 1 A, 2 C